# Altium integrated library Analog Devices Data Converters Analog-to-Digital Converters.IntLib: 2400 symbols (part 22 of 338)
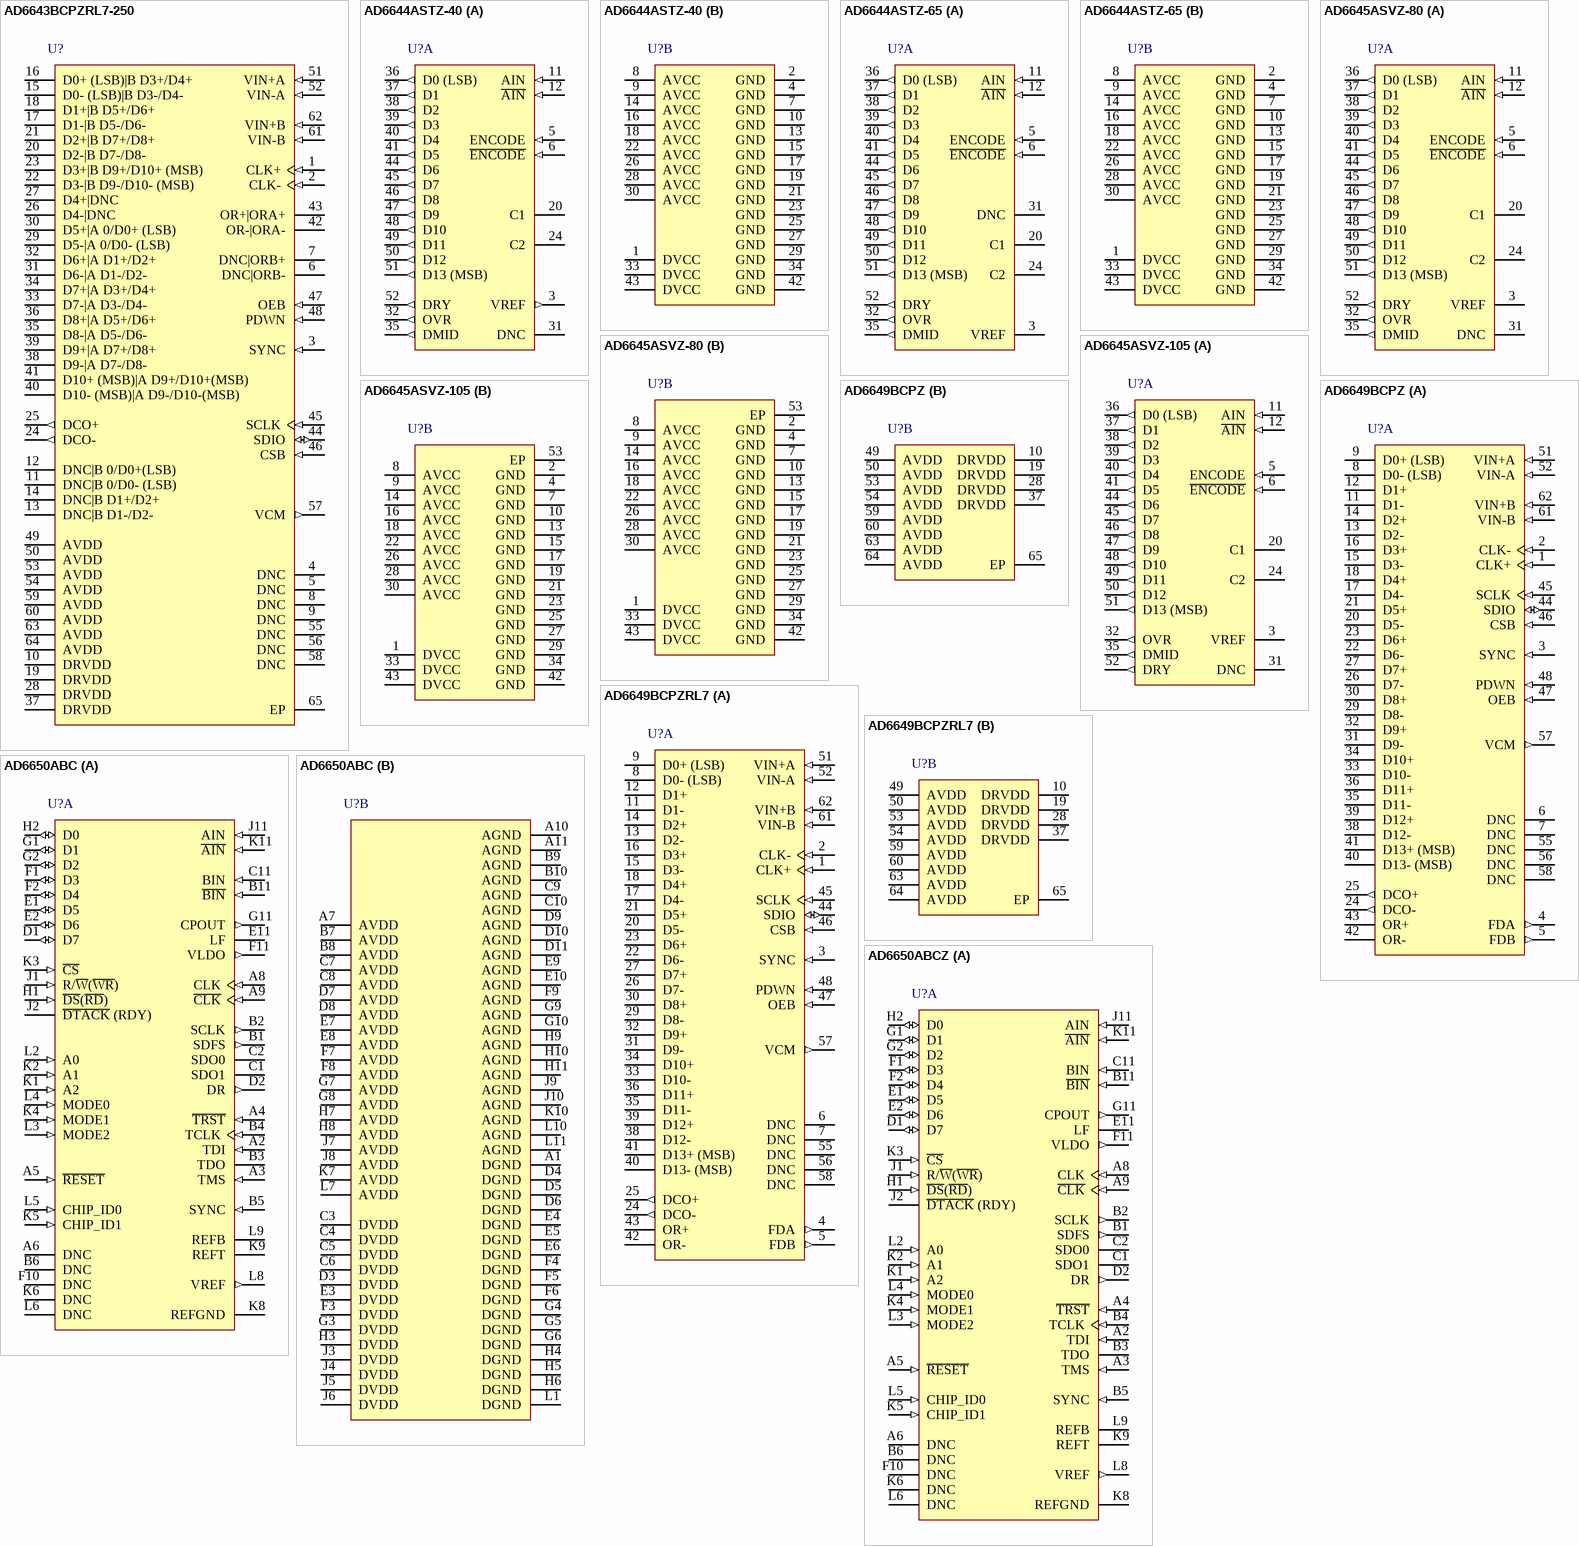
[diagram p266: symbols AD6643BCPZRL7-250 to AD6650ABCZ]

## AD6645ASVZ-105
designator U?
Single 14-Bit Analog-to-Digital Converter with Parallel Interface, 105MSPS, 0 to +70 degC, SV-52-1, Pb-Free, Tray; Part Number: AD6645-105; Manufacturer: Analog Devices; Resolution (Bits): 14; Channels: 1; Throughput Rate (SPS): 105M; Interface: Par; DatasheetVersion: Rev.D; PackageVersion: 072408-A; PackageReference: SV-52-1; PackageDescription: 52-Lead Thin Quad Flat Package, Exposed Pad [TQFP_EP]; RoHS: Y; Packing: Tray; Mounting Technology: Surface Mount; Code_JEDEC: MS-026-ACC; ComponentLink1Description: Manufacturer URL; ComponentLink1URL: http://www.analog.com/en/index.html; ComponentLink2Description: Datasheet; ComponentLink2URL: http://www.analog.com/static/imported-files/data_sheets/AD6645.pdf; ComponentLink3Description: Package Specification; ComponentLink3URL: SV-52-1; ComponentLink4Description: Product URL; ComponentLink4URL: http://www.analog.com/en/analog-to-digital-converters/ad-converters/ad6645/products/product.html
footprint SV-52-1_N (Thin QFP, 52-Leads, Body 10x10mm, Pitch 0.65mm, Thermal Pad 6.5x6.5mm, IPC Medium Density)
footprint SV-52-1_L (Thin QFP, 52-Leads, Body 10x10mm, Pitch 0.65mm, Thermal Pad 6.5x6.5mm, IPC High Density)
footprint SV-52-1_M (Thin QFP, 52-Leads, Body 10x10mm, Pitch 0.65mm, Thermal Pad 6.5x6.5mm, IPC Low Density)
part A pins: 3 VREF "2.4 V Reference. Bypass to ground with a 0.1 uF microwave chip capacitor.", 5 ENCODE (in) "Encode Input. Conversion initiated on rising edge.", 6 ~{ENCODE} (in) "Complement of E\N\C\O\D\E\, Differential Input.", 11 AIN (in) "Analog Input.", 12 ~{AIN} (in) "Complement of AIN, Differential Analog Input.", 20 C1 "Internal Voltage Reference. Bypass to ground with a 0.1 uF chip capacitor.", 24 C2 "Internal Voltage Reference. Bypass to ground with a 0.1 uF chip capacitor.", 31 DNC "Do not connect this pin.", 32 OVR (out) "Overrange Bit. A logic level high indicates analog input exceeds +/-FS.", 35 DMID (out) "Output Data Voltage Midpoint. Approximately equal to (DVCC)/2.", 36 D0 (LSB) (out) "Digital Output Bit (Least Significant Bit); Twos Complement.", 37 D1 (out) "Digital Output Bits in Twos Complement.", 38 D2 (out) "Digital Output Bits in Twos Complement.", 39 D3 (out) "Digital Output Bits in Twos Complement.", 40 D4 (out) "Digital Output Bits in Twos Complement.", 41 D5 (out) "Digital Output Bits in Twos Complement.", 44 D6 (out) "Digital Output Bits in Twos Complement.", 45 D7 (out) "Digital Output Bits in Twos Complement.", 46 D8 (out) "Digital Output Bits in Twos Complement.", 47 D9 (out) "Digital Output Bits in Twos Complement.", 48 D10 (out) "Digital Output Bits in Twos Complement.", 49 D11 (out) "Digital Output Bits in Twos Complement.", 50 D12 (out) "Digital Output Bits in Twos Complement.", 51 D13 (MSB) (out) "Digital Output Bit (Most Significant Bit); Twos Complement.", 52 DRY (out) "Data-Ready Output."
part B pins: 1 DVCC (power) "3.3 V Power Supply (Digital) Output Stage Only.", 2 GND (power) "Ground.", 4 GND (power) "Ground.", 7 GND (power) "Ground.", 8 AVCC (power) "5 V Analog Power Supply.", 9 AVCC (power) "5 V Analog Power Supply.", 10 GND (power) "Ground.", 13 GND (power) "Ground.", 14 AVCC (power) "5 V Analog Power Supply.", 15 GND (power) "Ground.", 16 AVCC (power) "5 V Analog Power Supply.", 17 GND (power) "Ground.", 18 AVCC (power) "5 V Analog Power Supply.", 19 GND (power) "Ground.", 21 GND (power) "Ground.", 22 AVCC (power) "5 V Analog Power Supply.", 23 GND (power) "Ground.", 25 GND (power) "Ground.", 26 AVCC (power) "5 V Analog Power Supply.", 27 GND (power) "Ground.", 28 AVCC (power) "5 V Analog Power Supply.", 29 GND (power) "Ground.", 30 AVCC (power) "5 V Analog Power Supply.", 33 DVCC (power) "3.3 V Power Supply (Digital) Output Stage Only.", 34 GND (power) "Ground.", 42 GND (power) "Ground.", 43 DVCC (power) "3.3 V Power Supply (Digital) Output Stage Only.", 53 EP (power) "Exposed Pad. Connect the exposed pad to GND."

## AD6649BCPZ
designator U?
Dual IF Diversity Receiver, -40 to +85 degC, CP-64-4, Pb-Free, Tray; Part Number: AD6649; Manufacturer: Analog Devices; Channels: 2; DatasheetVersion: Rev.A; PackageVersion: 051007-C; PackageReference: CP-64-4; PackageDescription: 64-Lead Lead Frame Chip Scale Package [LFCSP_VQ] 9 x 9 mm Body, Very Thin Quad; RoHS: Y; Packing: Tray; Mounting Technology: Surface Mount; Code_JEDEC: MO-220-VMMD-4; ComponentLink1Description: Manufacturer URL; ComponentLink1URL: http://www.analog.com/en/index.html; ComponentLink2Description: Datasheet; ComponentLink2URL: http://www.analog.com/static/imported-files/data_sheets/AD6649.pdf; ComponentLink3Description: Package Specification; ComponentLink3URL: http://www.analog.com/static/imported-files/packages/PKG_PDF/LFCSP(CP)/CP_64_4.pdf; ComponentLink4Description: Product URL; ComponentLink4URL: http://www.analog.com/en/analog-to-digital-converters/integrated-receivers/ad6649/products/product.html
footprint CP-64-4_N (QFN, 64-Leads, Body 9x9mm, Pitch 0.5mm, Thermal Pad 6.2x6.2mm, IPC Medium Density)
footprint CP-64-4_L (QFN, 64-Leads, Body 9x9mm, Pitch 0.5mm, Thermal Pad 6.2x6.2mm, IPC High Density)
footprint CP-64-4_M (QFN, 64-Leads, Body 9x9mm, Pitch 0.5mm, Thermal Pad 6.2x6.2mm, IPC Low Density)
part A pins: 1 CLK+ (in) "ADC Clock Input--True.", 2 CLK- (in) "ADC Clock Input--Complement.", 3 SYNC (in) "Digital Synchronization Pin. Slave mode only.", 4 FDA (out) "Channel A Fast Detect Indicator (CMOS Levels).", 5 FDB (out) "Channel B Fast Detect Indicator (CMOS Levels).", 6 DNC "Do Not Connect. Do not connect to this pin.", 7 DNC "Do Not Connect. Do not connect to this pin.", 8 D0- (LSB) (hiz) "Channel A/Channel B LVDS Output Data 0--Complement", 9 D0+ (LSB) (hiz) "Channel A/Channel B LVDS Output Data 0--True.", 11 D1- (hiz) "Channel A/Channel B LVDS Output Data 1--Complement.", 12 D1+ (hiz) "Channel A/Channel B LVDS Output Data 1--True.", 13 D2- (hiz) "Channel A/Channel B LVDS Output Data 2--Complement.", 14 D2+ (hiz) "Channel A/Channel B LVDS Output Data 2--True.", 15 D3- (hiz) "Channel A/Channel B LVDS Output Data 3--Complement.", 16 D3+ (hiz) "Channel A/Channel B LVDS Output Data 3--True.", 17 D4- (hiz) "Channel A/Channel B LVDS Output Data 4--Complement.", 18 D4+ (hiz) "Channel A/Channel B LVDS Output Data 4--True.", 20 D5- (hiz) "Channel A/Channel B LVDS Output Data 5--Complement.", 21 D5+ (hiz) "Channel A/Channel B LVDS Output Data 5--True.", 22 D6- (hiz) "Channel A/Channel B LVDS Output Data 6--Complement.", 23 D6+ (hiz) "Channel A/Channel B LVDS Output Data 6--True.", 24 DCO- (out) "Channel A/Channel B LVDS Data Clock Output--Complement.", 25 DCO+ (out) "Channel A/Channel B LVDS Data Clock Output--True.", 26 D7- (hiz) "Channel A/Channel B LVDS Output Data 7--Complement.", 27 D7+ (hiz) "Channel A/Channel B LVDS Output Data 7--True.", 29 D8- (hiz) "Channel A/Channel B LVDS Output Data 8--Complement.", 30 D8+ (hiz) "Channel A/Channel B LVDS Output Data 8--True.", 31 D9- (hiz) "Channel A/Channel B LVDS Output Data 9--Complement.", 32 D9+ (hiz) "Channel A/Channel B LVDS Output Data 9--True.", 33 D10- (hiz) "Channel A/Channel B LVDS Output Data 10--Complement.", 34 D10+ (hiz) "Channel A/Channel B LVDS Output Data 10--True.", 35 D11- (hiz) "Channel A/Channel B LVDS Output Data 11--Complement.", 36 D11+ (hiz) "Channel A/Channel B LVDS Output Data 11--True.", 38 D12- (hiz) "Channel A/Channel B LVDS Output Data 12--Complement.", 39 D12+ (hiz) "Channel A/Channel B LVDS Output Data 12--True.", 40 D13- (MSB) (hiz) "Channel A/Channel B LVDS Output Data 13--Complement.", 41 D13+ (MSB) (hiz) "Channel A/Channel B LVDS Output Data 13--True.", 42 OR- (hiz) "Channel A/Channel B LVDS Overrange--Complement.", 43 OR+ (hiz) "Channel A/Channel B LVDS Overrange--True.", 44 SDIO (io) "SPI Serial Data Input/Output.", 45 SCLK (in) "SPI Serial Clock.", 46 CSB (in) "SPI Chip Select (Active Low).", 47 OEB (in) "Output Enable Bar Input (Active Low).", 48 PDWN (in) "Power-Down Input (Active High). The operation of this pin depends on the SPI mode and can be configured as power-down or standby (see Table 14).", 51 VIN+A (in) "Differential Analog Input Pin (+) for Channel A.", 52 VIN-A (in) "Differential Analog Input Pin (-) for Channel A.", 55 DNC "Do Not Connect. Do not connect to this pin.", 56 DNC "Do Not Connect. Do not connect to this pin.", 57 VCM (out) "Common-Mode Level Bias Output for Analog Inputs. This pin should be decoupled to ground using a 0.1 uF capacitor.", 58 DNC "Do Not Connect. Do not connect to this pin.", 61 VIN-B (in) "Differential Analog Input Pin (-) for Channel B.", 62 VIN+B (in) "Differential Analog Input Pin (+) for Channel B."
part B pins: 10 DRVDD (power) "Digital Output Driver Supply (1.8 V Nominal).", 19 DRVDD (power) "Digital Output Driver Supply (1.8 V Nominal).", 28 DRVDD (power) "Digital Output Driver Supply (1.8 V Nominal).", 37 DRVDD (power) "Digital Output Driver Supply (1.8 V Nominal).", 49 AVDD (power) "Analog Power Supply (1.8 V Nominal).", 50 AVDD (power) "Analog Power Supply (1.8 V Nominal).", 53 AVDD (power) "Analog Power Supply (1.8 V Nominal).", 54 AVDD (power) "Analog Power Supply (1.8 V Nominal).", 59 AVDD (power) "Analog Power Supply (1.8 V Nominal).", 60 AVDD (power) "Analog Power Supply (1.8 V Nominal).", 63 AVDD (power) "Analog Power Supply (1.8 V Nominal).", 64 AVDD (power) "Analog Power Supply (1.8 V Nominal).", 65 EP (power) "Analog Ground. The exposed thermal paddle on the bottom of the package provides the analog ground for the part. This exposed paddle must be connected to ground for proper operation."